# Altium footprint library DFPlayer.PcbLib: 1 footprints
Each footprint in its own frame and in the unit in brackets; x right, y up, seen from the top. Pads: shape width x height; smd on the part's side, far side on the other; paste and mask are expansions set on the pad; w line width, h text height; cw(c..) or ccw(c..) is an arc to the next point about the centre after c.
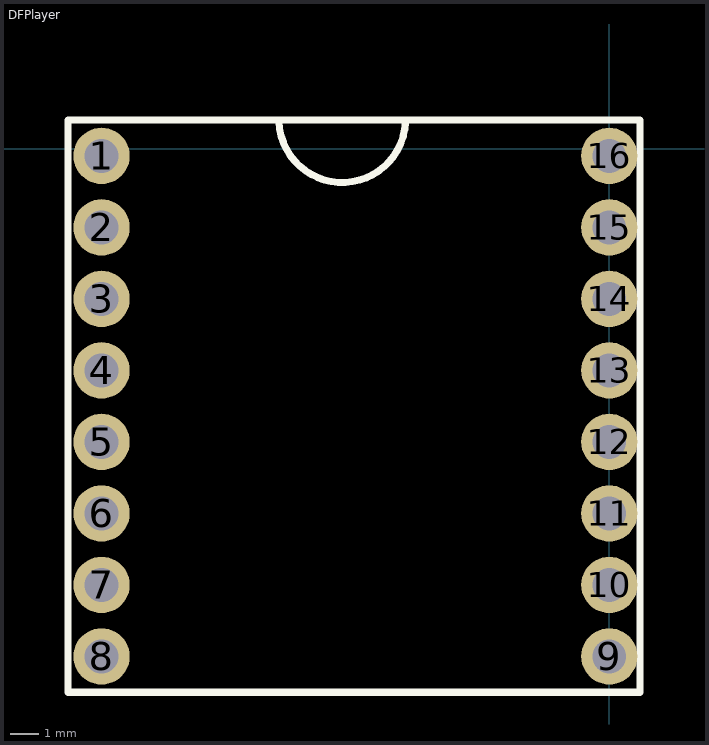
[diagram p0: the footprint, top view; thin cyan lines are the x and y axes]

## DFPlayer [mm]
pads (16):
  round 2 hole 1.2: 1(-18.034,-0.254) 2(-18.034,-2.794) 3(-18.034,-5.334) 4(-18.034,-7.874) 5(-18.034,-10.414) 6(-18.034,-12.954) 7(-18.034,-15.494) 8(-18.034,-18.034) 9(0,-18.034) 10(0,-15.494) 11(0,-12.954) 12(0,-10.414) 13(0,-7.874) 14(0,-5.334) 15(0,-2.794) 16(0,-0.254)
Top Overlay:
  lines w0.254: -11.734,0.964 ccw(c-9.486,1.05) -7.239,0.94 ; -19.228,-19.304 1.092,-19.304 1.092,1.016 -19.228,1.016 -19.228,-19.304